# EAGLE library part ATTINY[24/44]A (library wicked-device)
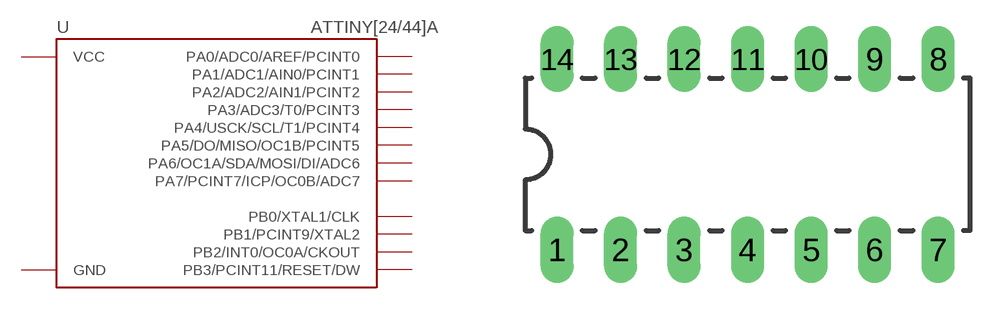
[diagram p0: symbol with the pads of DIL14; footprint DIL14]

Designator prefix -

## ATTINY[24/44]A  [DIL14]
1  VCC  pwr
2  PB0/XTAL1/CLK
3  PB1/PCINT9/XTAL2
4  PB3/PCINT11/RESET/DW
5  PB2/INT0/OC0A/CKOUT
6  PA7/PCINT7/ICP/OC0B/ADC7
7  PA6/OC1A/SDA/MOSI/DI/ADC6
8  PA5/DO/MISO/OC1B/PCINT5
9  PA4/USCK/SCL/T1/PCINT4
10  PA3/ADC3/T0/PCINT3
11  PA2/ADC2/AIN1/PCINT2
12  PA1/ADC1/AIN0/PCINT1
13  PA0/ADC0/AREF/PCINT0
14  GND  pwr

## Footprint DIL14 (pad centres in mm)
drill 0.813 long: 1 -7.62,-3.81; 2 -5.08,-3.81; 3 -2.54,-3.81; 4 0,-3.81; 5 2.54,-3.81; 6 5.08,-3.81; 7 7.62,-3.81; 8 7.62,3.81; 9 5.08,3.81; 10 2.54,3.81; 11 0,3.81; 12 -2.54,3.81; 13 -5.08,3.81; 14 -7.62,3.81